# Altium footprint library TO254P1515X470-3N.PcbLib: 1 footprints
Each footprint in its own frame and in the unit in brackets; x right, y up, seen from the top. Pads: shape width x height; smd on the part's side, far side on the other; paste and mask are expansions set on the pad; w line width, h text height; cw(c..) or ccw(c..) is an arc to the next point about the centre after c.
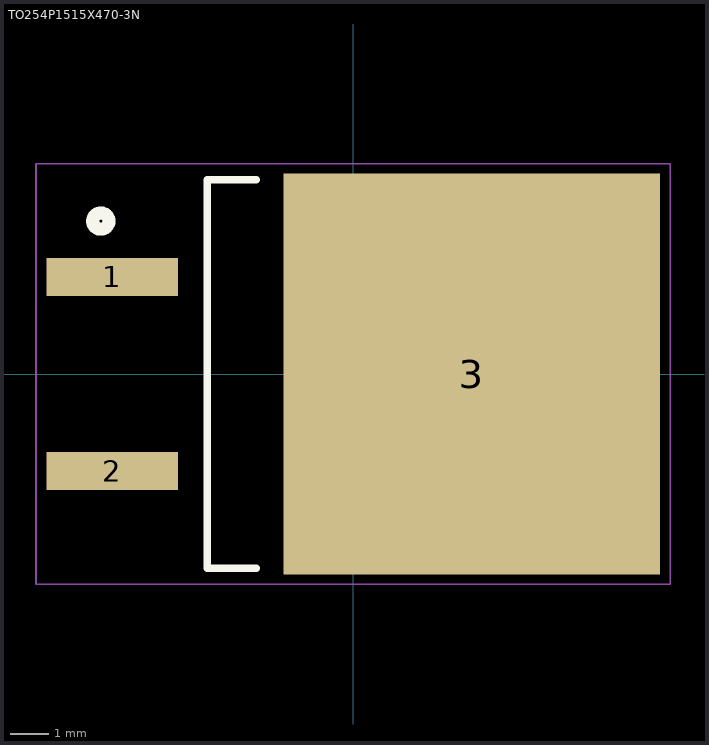
[diagram p0: the footprint, top view; thin cyan lines are the x and y axes]

## TO254P1515X470-3N [mm]
pads (3):
  rect 3.45x1 smd: 1(-6.3,2.54) 2(-6.3,-2.54)
  rect 9.85x10.5 smd: 3(3.1,0)
Top Overlay:
  circle w0.2: c-6.6,4 r0.141
  circle w0.2: c-6.6,4 r0.283
  lines w0.2: -2.54,-5.08 -3.81,-5.08 -3.81,5.08 -2.54,5.08
Top Paste:
  region: 5.75,-3.24 7.1,-3.24 7.1,-4.768 5.75,-4.768
  region: 3.625,-3.24 4.98,-3.24 4.98,-4.766 3.625,-4.766
  region: 1.472,-3.24 2.83,-3.24 2.83,-4.767 1.472,-4.767
  region: -0.681,-3.24 0.68,-3.24 0.68,-4.769 -0.681,-4.769
  region: 5.741,-1.24 7.1,-1.24 7.1,-2.761 5.741,-2.761
  region: 3.622,-1.24 4.98,-1.24 4.98,-2.761 3.622,-2.761
  region: 1.471,-1.24 2.83,-1.24 2.83,-2.762 1.471,-2.762
  region: -0.681,-1.24 0.68,-1.24 0.68,-2.763 -0.681,-2.763
  region: 5.742,0.76 7.1,0.76 7.1,-0.76 5.742,-0.76
  region: 3.627,0.76 4.98,0.76 4.98,-0.761 3.627,-0.761
  region: 1.473,0.76 2.83,0.76 2.83,-0.761 1.473,-0.761
  region: -0.681,0.76 0.68,0.76 0.68,-0.761 -0.681,-0.761
  region: 5.75,2.76 7.1,2.76 7.1,1.242 5.75,1.242
  region: 3.624,2.76 4.98,2.76 4.98,1.241 3.624,1.241
  region: 1.471,2.76 2.83,2.76 2.83,1.241 1.471,1.241
  region: -0.681,2.76 0.68,2.76 0.68,1.242 -0.681,1.242
  region: 5.746,4.76 7.1,4.76 7.1,3.243 5.746,3.243
  region: 3.626,4.76 4.98,4.76 4.98,3.246 3.626,3.246
  region: 1.472,4.76 2.83,4.76 2.83,3.245 1.472,3.245
  region: -0.68,4.76 0.68,4.76 0.68,3.24 -0.68,3.24
Mechanical 1:
  lines w0.05: -8.3,-5.5 -8.3,5.5 8.3,5.5 8.3,-5.5 -8.3,-5.5